# Altium footprint library LaunchyIgnitionParts.PcbLib: 6 footprints
Each footprint in its own frame and in the unit in brackets; x right, y up, seen from the top. Pads: shape width x height; smd on the part's side, far side on the other; paste and mask are expansions set on the pad; w line width, h text height; cw(c..) or ccw(c..) is an arc to the next point about the centre after c.
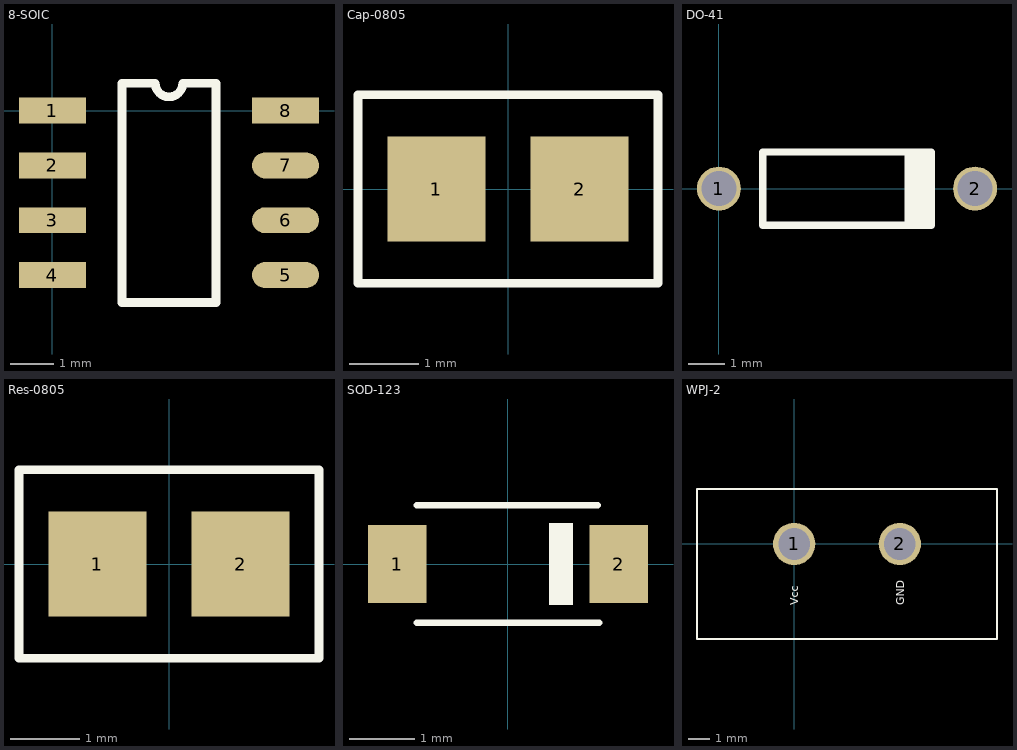
[diagram p0: the footprints below, top view; thin cyan lines are the x and y axes]

## 8-SOIC [mm]
pads (8):
  rect 1.55x0.6 smd mask+0.07: 1(0,0) 2(0,-1.27) 3(0,-2.54) 4(0,-3.81) 8(5.4,0)
  oval 1.55x0.6 smd mask+0.07: 5(5.4,-3.81) 6(5.4,-2.54) 7(5.4,-1.27)
Top Overlay:
  lines w0.2: 1.61,-4.445 3.79,-4.445 3.79,0.635 3.017,0.635 cw(c2.7,0.635) 2.382,0.635 1.61,0.635 1.61,-4.445

## Cap-0805 [mm]
height 0.6
pads (2):
  rect 1.4x1.5 smd: 1(-1.025,0) 2(1.025,0)
Top Overlay:
  lines w0.127: -2.15,-1.35 -2.15,1.35 2.15,1.35 2.15,-1.35 -2.15,-1.35

## DO-41 [mm]
pads (2):
  round 1.2 hole 0.95: 1(0,0) 2(7,0)
Top Overlay:
  rectangle: 5.075,-1.025 5.8,0.925
  lines w0.2: 5.8,0 5.8,1 ; 5.8,1 5.8,-0.75 5.8,-1 1.2,-1 1.2,1 5.8,1

## Res-0805 [mm]
height 0.6
pads (2):
  rect 1.4x1.5 smd: 1(-1.025,0) 2(1.025,0)
Top Overlay:
  lines w0.127: -2.15,-1.35 -2.15,1.35 2.15,1.35 2.15,-1.35 -2.15,-1.35

## SOD-123 [mm]
pads (2):
  rect 0.9x1.2 smd: 1(-1.7,0) 2(1.7,0)
Top Overlay:
  rectangle: 0.625,-0.625 1,0.625
  lines w0.1: -1.4,-0.9 1.4,-0.9 ; -1.4,0.9 1.375,0.9

## WPJ-2 [mm] "WPJ connector, 2 positions"
height 25.3
pads (2):
  round 2 hole 1.5: 1(0,0) 2(5,0)
Top Overlay:
  lines w0.1: -4.6,-4.5 9.6,-4.5 9.6,2.6 -4.6,2.6 -4.6,-4.5
  text "GND" at 5.2,-2.9 h0.38
  text "Vcc" at 0.2,-2.9 h0.38